# Altium integrated library B0505S-1W.IntLib: 1 symbol
Pins are listed as number, name and electrical type; pins without a type are passive.

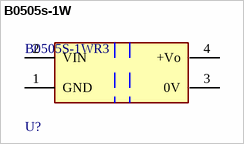
[diagram p0: symbol B0505s-1W]

## B0505s-1W
designator U?, comment B0505S-1WR3
DC DC Converter 5V 1W
footprint FP-B0505S-1WR3-MFG
pins: 1 GND (power), 2 VIN (power), 3 0V (power), 4 +Vo (power)